# EAGLE library part MICRO32 (library lamloei-micro32)
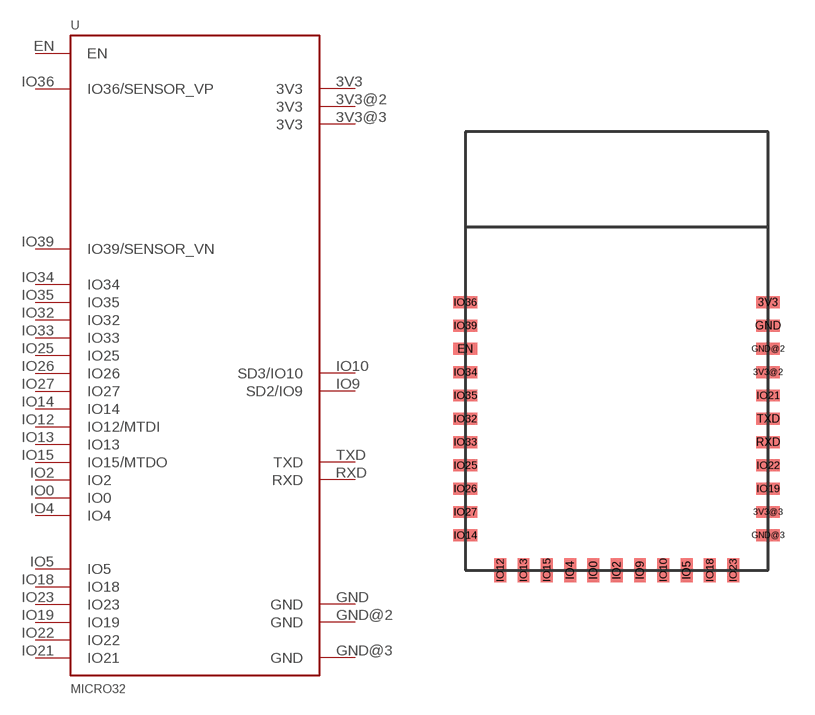
[diagram p0: symbol with the pads of MICRO32; footprint MICRO32]

Designator prefix -

## MICRO32  [MICRO32]
3V3  3V3  pwr
3V3@2  3V3  pwr
3V3@3  3V3  pwr
EN  EN  in
GND  GND  nc
GND@2  GND  nc
GND@3  GND  pwr
IO0  IO0
IO2  IO2
IO4  IO4
IO5  IO5
IO9  SD2/IO9
IO10  SD3/IO10
IO12  IO12/MTDI
IO13  IO13
IO14  IO14
IO15  IO15/MTDO
IO18  IO18
IO19  IO19
IO21  IO21
IO22  IO22
IO23  IO23
IO25  IO25
IO26  IO26
IO27  IO27
IO32  IO32
IO33  IO33
IO34  IO34
IO35  IO35
IO36  IO36/SENSOR_VP
IO39  IO39/SENSOR_VN
RXD  RXD
TXD  TXD

## Footprint MICRO32 (pad centres in mm)
smd 1.016 x 0.508: 3V3 13.5,12.5; 3V3@2 13.5,9.5; 3V3@3 13.5,3.5; EN 0.5,10.5; GND 13.5,11.5; GND@2 13.5,10.5; GND@3 13.5,2.5; IO14 0.5,2.5; IO19 13.5,4.5; IO21 13.5,8.5; IO22 13.5,5.5; IO25 0.5,5.5; IO26 0.5,4.5; IO27 0.5,3.5; IO32 0.5,7.5; IO33 0.5,6.5; IO34 0.5,9.5; IO35 0.5,8.5; IO36 0.5,12.5; IO39 0.5,11.5; RXD 13.5,6.5; TXD 13.5,7.5
smd 0.508 x 1.016: IO0 6,1; IO2 7,1; IO4 5,1; IO5 10,1; IO9 8,1; IO10 9,1; IO12 2,1; IO13 3,1; IO15 4,1; IO18 11,1; IO23 12,1